# Altium footprint library 8-SOIC(3.90x6).PcbLib: 1 footprints
Each footprint in its own frame and in the unit in brackets; x right, y up, seen from the top. Pads: shape width x height; smd on the part's side, far side on the other; paste and mask are expansions set on the pad; w line width, h text height; cw(c..) or ccw(c..) is an arc to the next point about the centre after c.
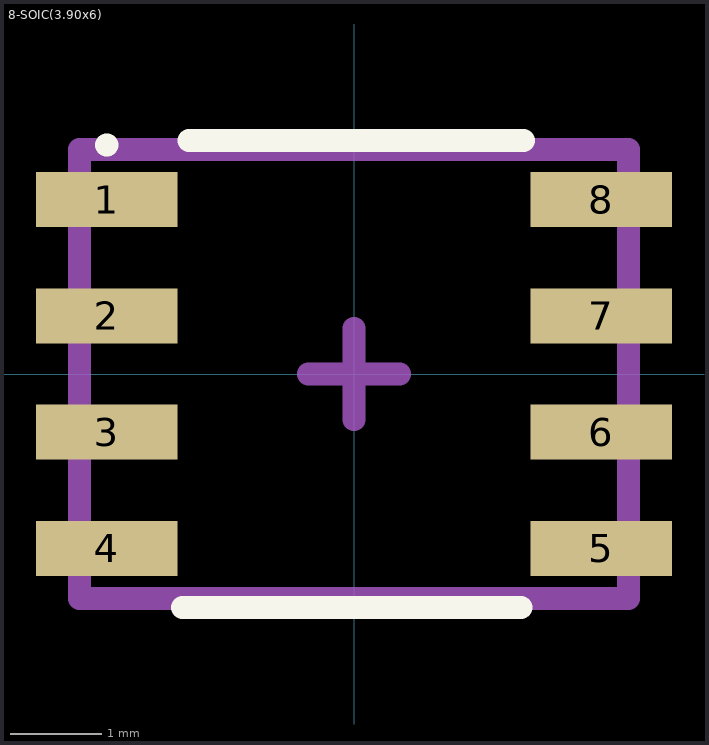
[diagram p0: the footprint, top view; thin cyan lines are the x and y axes]

## 8-SOIC(3.90x6) [mm]
pads (8):
  rect 1.55x0.6 smd mask+0.051: 1(-2.7,1.905) 2(-2.7,0.635) 3(-2.7,-0.635) 4(-2.7,-1.905) 5(2.7,-1.905) 6(2.7,-0.635) 7(2.7,0.635) 8(2.7,1.905)
Top Overlay:
  circle w0.254: c-2.7,2.5 r0
  lines w0.25: -1.875,-2.55 1.825,-2.55 ; -1.8,2.55 1.85,2.55
Top Designator:
  text ".Designator" at -7.618,-0.507 h1.52
3D Body:
  lines w0.25: -3,-2.45 3,-2.45 3,2.45 -3,2.45 -3,-2.45
Center Cross:
  lines w0.25: 0,0 -0.5,0 0,0 ; 0,0 0,-0.5 0,0 ; 0,0 0.5,0 0,0 ; 0,0 0,0.5 0,0
3D body "8-SOIC.STEP": height 1.75, standoff 0, extent -3,-2.45 3,2.45